# EAGLE library part LTD-4708JF (library 0000 - @rsandor parts)
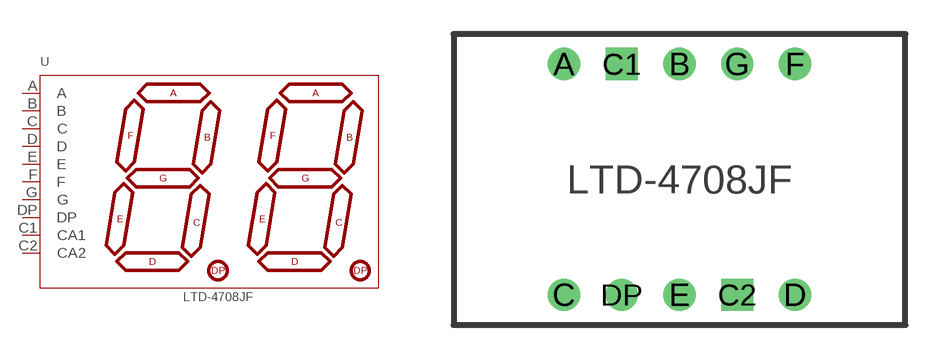
[diagram p3: symbol with the pads of LTD-4708JF; footprint LTD-4708JF]

Designator prefix -

## LTD-4708JF  [LTD-4708JF]
A  A
B  B
C  C
C1  CA1
C2  CA2
D  D
DP  DP
E  E
F  F
G  G

## Footprint LTD-4708JF (pad centres in mm)
drill 0.75 pad 1.422: A -5.08,5.08; B 0,5.08; C -5.08,-5.08; D 5.08,-5.08; DP -2.54,-5.08; E 0,-5.08; F 5.08,5.08; G 2.54,5.08
drill 0.75 pad 1.422 square: C1 -2.54,5.08; C2 2.54,-5.08